# Altium schematic symbol library LPC1788.SCHLIB: 29 symbols
Pins are listed as number, name and electrical type; pins without a type are passive.

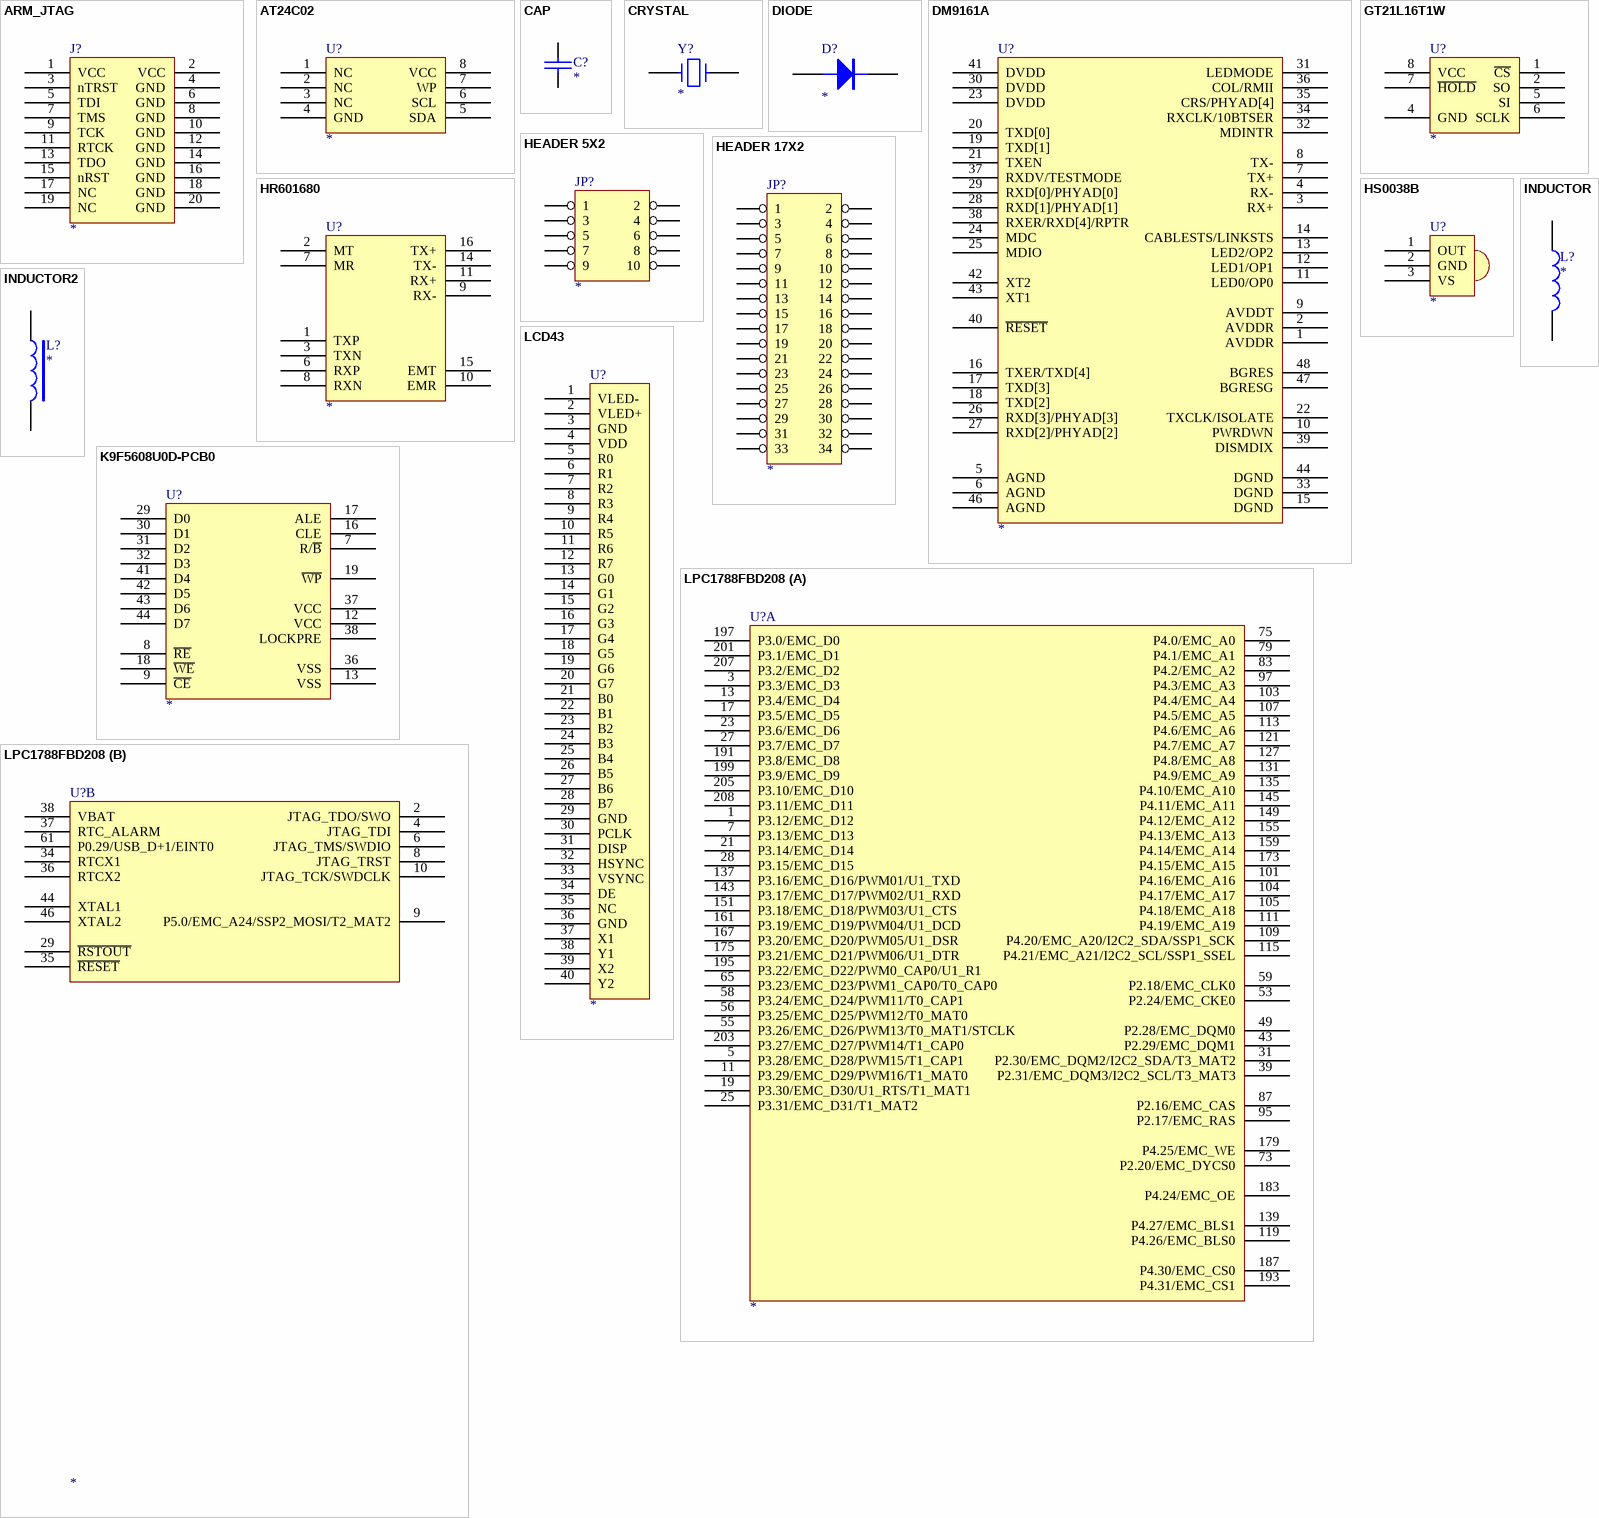
[diagram p0: symbols ARM_JTAG to LPC1788FBD208]

## ARM_JTAG
designator J?
footprint IDC20
pins: 1 VCC, 2 VCC, 3 nTRST, 4 GND, 5 TDI, 6 GND, 7 TMS, 8 GND, 9 TCK, 10 GND, 11 RTCK, 12 GND, 13 TDO, 14 GND, 15 nRST, 16 GND, 17 NC, 18 GND, 19 NC, 20 GND

## AT24C02
designator U?
footprint SOP8
pins: 1 NC, 2 NC, 3 NC, 4 GND, 5 SDA, 6 SCL, 7 WP, 8 VCC

## CAP
designator C?
footprint C0603
footprint C0805
footprint C1206
pins: 1, 2

## CRYSTAL
designator Y?
footprint CY5032
footprint MC-306
pins: 1, 2

## DIODE
designator D?
footprint SOD323
pins: 1 A, 2 K

## DM9161A
designator U?
footprint PQFP48
pins: 1 AVDDR, 2 AVDDR, 3 RX+, 4 RX-, 5 AGND, 6 AGND, 7 TX+, 8 TX-, 9 AVDDT, 10 PWRDWN, 11 LED0/OP0, 12 LED1/OP1, 13 LED2/OP2, 14 CABLESTS/LINKSTS, 15 DGND, 16 TXER/TXD[4], 17 TXD[3], 18 TXD[2], 19 TXD[1], 20 TXD[0], 21 TXEN, 22 TXCLK/ISOLATE, 23 DVDD, 24 MDC, 25 MDIO, 26 RXD[3]/PHYAD[3], 27 RXD[2]/PHYAD[2], 28 RXD[1]/PHYAD[1], 29 RXD[0]/PHYAD[0], 30 DVDD, 31 LEDMODE, 32 MDINTR, 33 DGND, 34 RXCLK/10BTSER, 35 CRS/PHYAD[4], 36 COL/RMII, 37 RXDV/TESTMODE, 38 RXER/RXD[4]/RPTR, 39 DISMDIX, 40 ~{RESET}, 41 DVDD, 42 XT2, 43 XT1, 44 DGND, 45 NC hidden to NC, 46 AGND, 47 BGRESG, 48 BGRES

## GT21L16T1W
designator U?
footprint SOP8
pins: 1 ~{CS}, 2 SO, 3 NC hidden to NC, 4 GND, 5 SI, 6 SCLK, 7 ~{HOLD}, 8 VCC

## HEADER 5X2
designator JP?
footprint IDC10
pins: 1, 2, 3, 4, 5, 6, 7, 8, 9, 10

## HEADER 17X2
designator JP?
footprint IDC34
pins: 1, 2, 3, 4, 5, 6, 7, 8, 9, 10, 11, 12, 13, 14, 15, 16, 17, 18, 19, 20, 21, 22, 23, 24, 25, 26, 27, 28, 29, 30, 31, 32, 33, 34

## HR601680
designator U?
footprint HR601680
pins: 1 TXP, 2 MT, 3 TXN, 4 NC hidden to NC, 5 NC hidden to NC, 6 RXP, 7 MR, 8 RXN, 9 RX-, 10 EMR, 11 RX+, 12 NC hidden to NC, 13 NC hidden to NC, 14 TX-, 15 EMT, 16 TX+

## HS0038B
designator U?
footprint HS0038B
pins: 1 OUT, 2 GND, 3 VS

## INDUCTOR
designator L?
footprint L4X4
footprint BEADL
pins: 1, 2

## INDUCTOR2
designator L?
footprint BEADL
footprint L4X4
pins: 1, 2

## K9F5608U0D-PCB0
designator U?
footprint TSOP1-48
footprint TSOP48
pins: 1 NC hidden to NC, 2 NC hidden to NC, 3 NC hidden to NC, 4 NC hidden to NC, 5 NC hidden to NC, 6 NC hidden to NC, 7 R/~{B}, 8 ~{RE}, 9 ~{CE}, 10 NC hidden to NC, 11 NC hidden to NC, 12 VCC, 13 VSS, 14 NC hidden to NC, 15 NC hidden to NC, 16 CLE, 17 ALE, 18 ~{WE}, 19 ~{WP}, 20 NC hidden to NC, 21 NC hidden to NC, 22 NC hidden to NC, 23 NC hidden to NC, 24 NC hidden to NC, 25 NC hidden to NC, 26 NC hidden to NC, 27 NC hidden to NC, 28 NC hidden to NC, 29 D0, 30 D1, 31 D2, 32 D3, 33 NC hidden to NC, 34 NC hidden to NC, 35 NC hidden to NC, 36 VSS, 37 VCC, 38 LOCKPRE, 39 NC hidden to NC, 40 NC hidden to NC, 41 D4, 42 D5, 43 D6, 44 D7, 45 NC hidden to NC, 46 NC hidden to NC, 47 NC hidden to NC, 48 NC hidden to NC

## LCD43
designator U?
footprint SMTSOFT40
pins: 1 VLED-, 2 VLED+, 3 GND, 4 VDD, 5 R0, 6 R1, 7 R2, 8 R3, 9 R4, 10 R5, 11 R6, 12 R7, 13 G0, 14 G1, 15 G2, 16 G3, 17 G4, 18 G5, 19 G6, 20 G7, 21 B0, 22 B1, 23 B2, 24 B3, 25 B4, 26 B5, 27 B6, 28 B7, 29 GND, 30 PCLK, 31 DISP, 32 HSYNC, 33 VSYNC, 34 DE, 35 NC, 36 GND, 37 X1, 38 Y1, 39 X2, 40 Y2

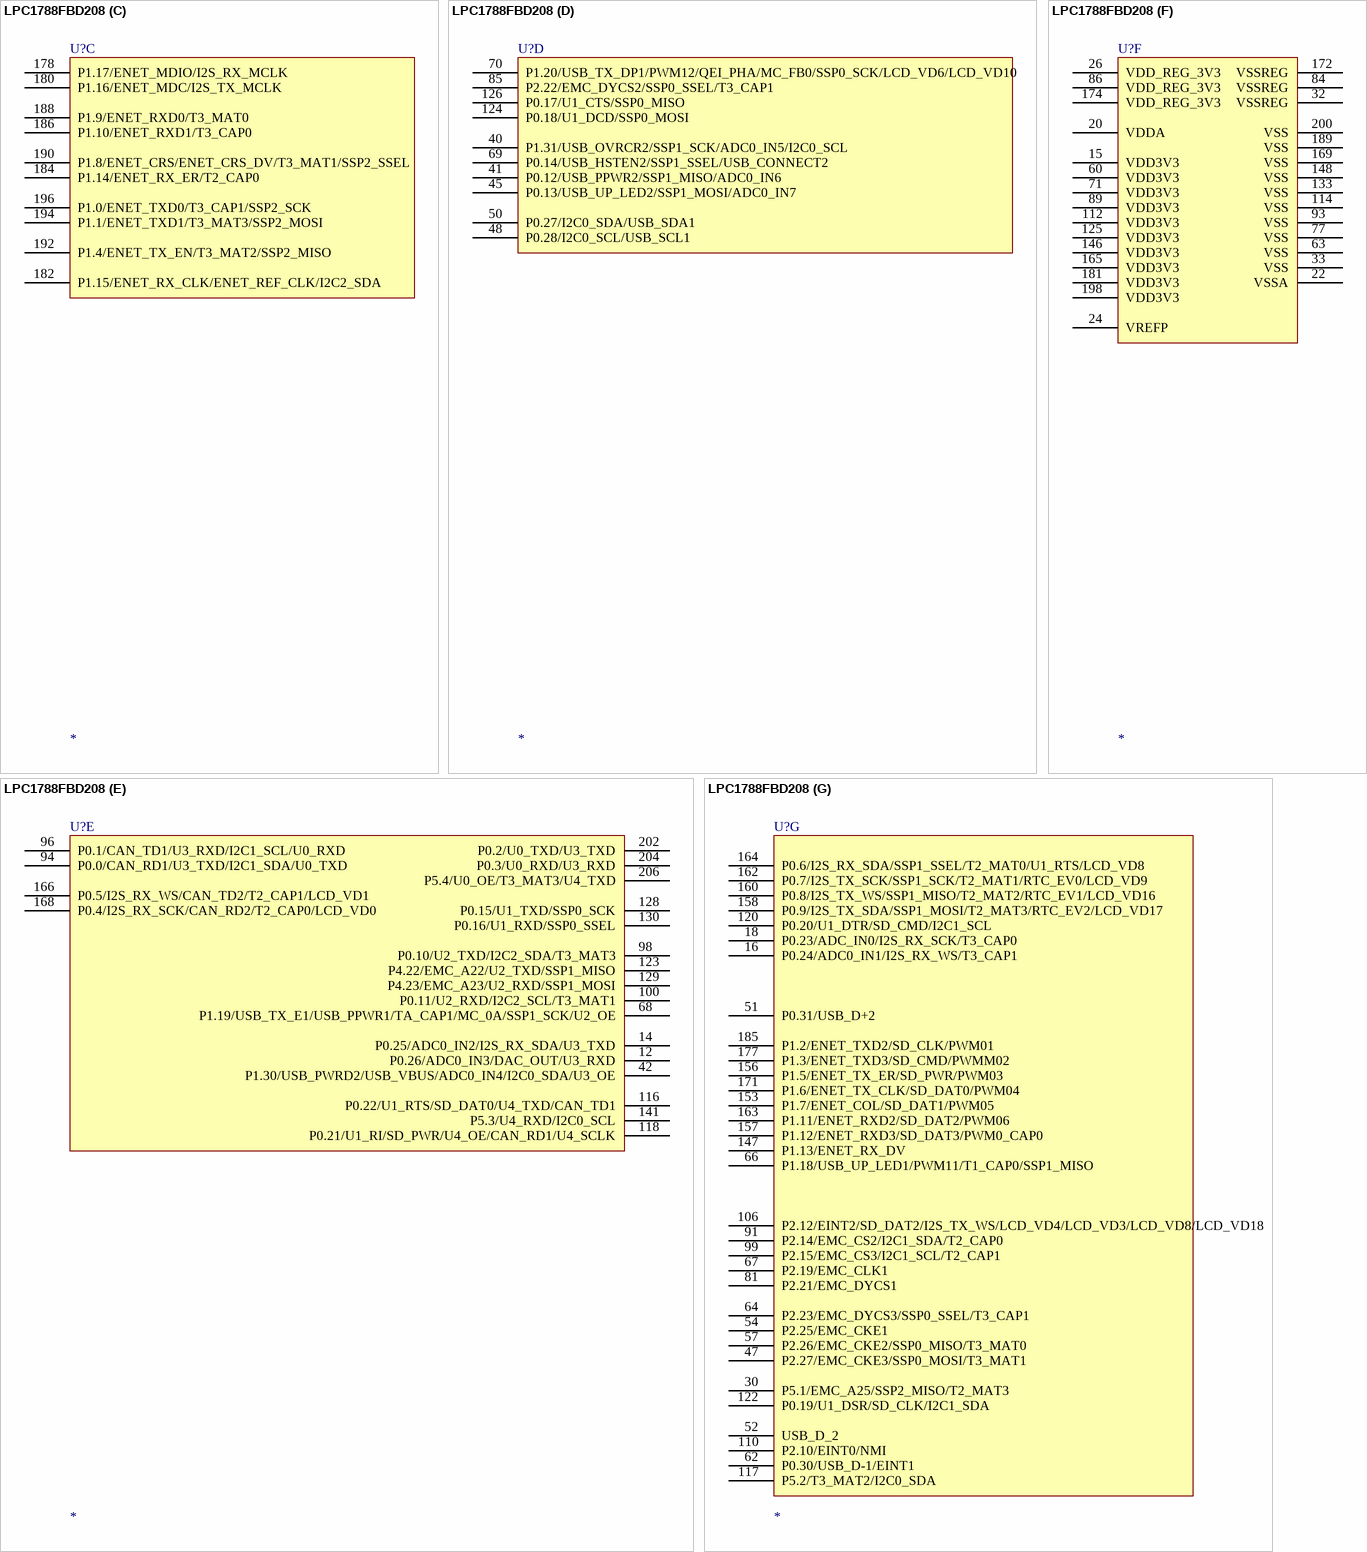
[diagram p1: symbol LPC1788FBD208]

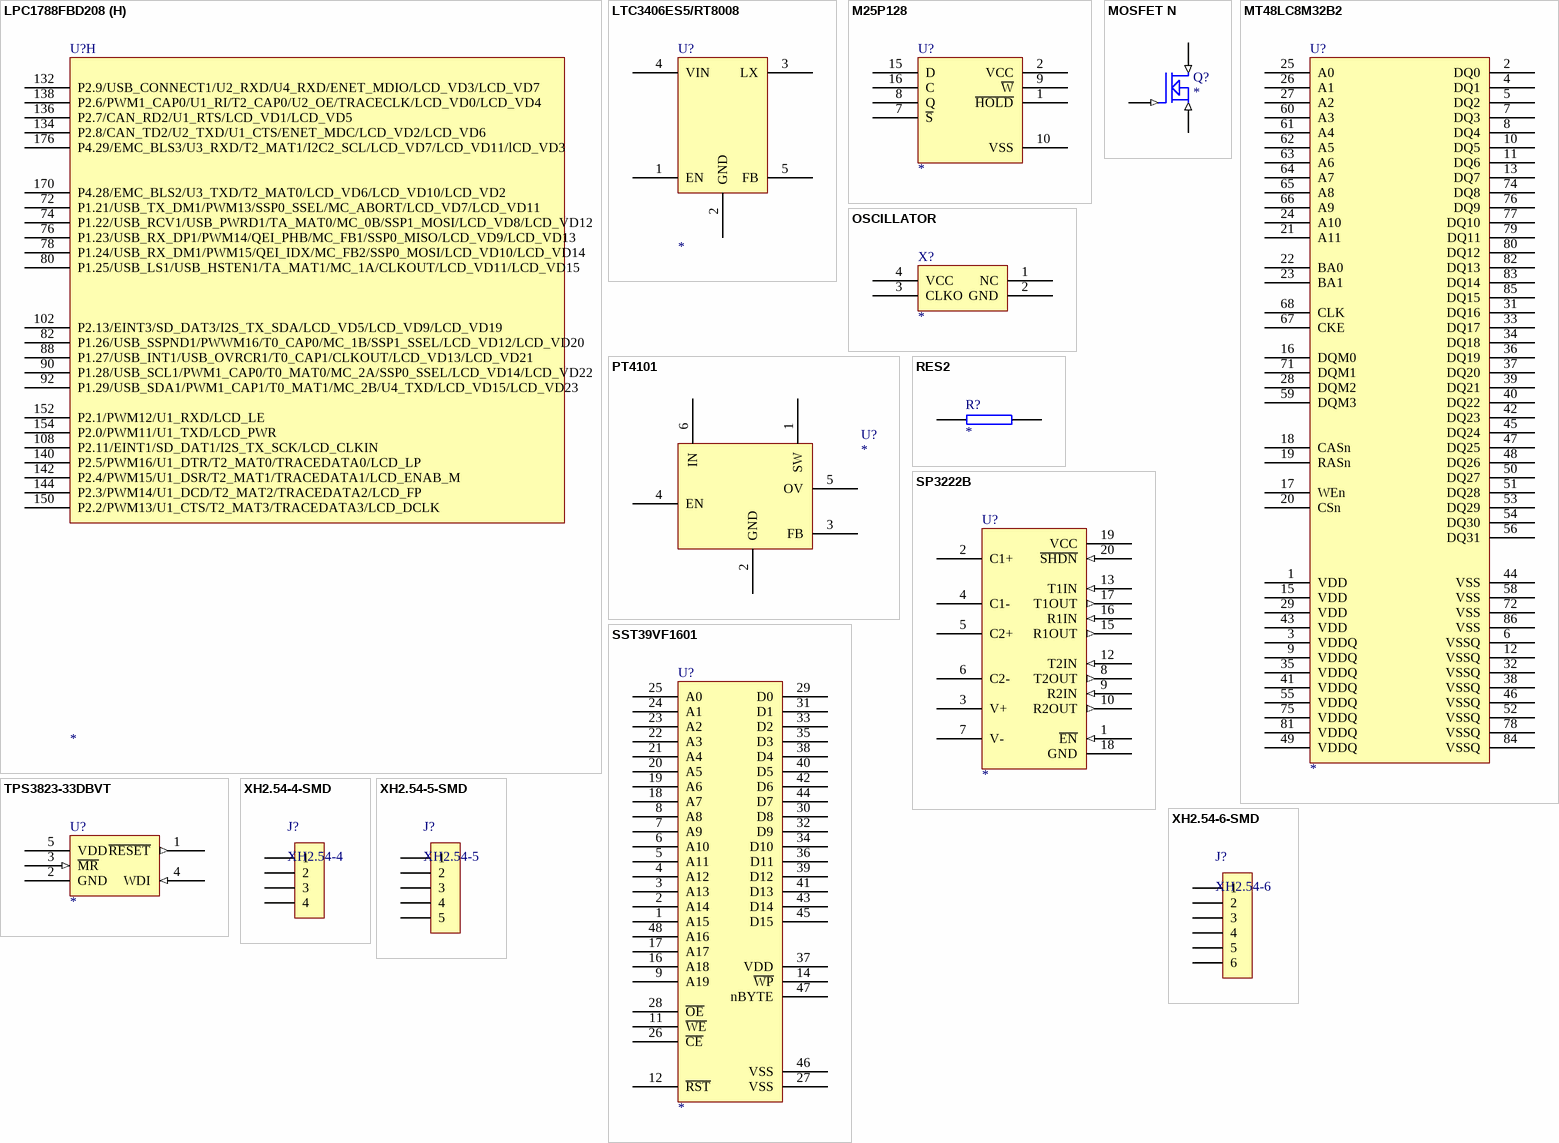
[diagram p2: symbols LPC1788FBD208 to XH2.54-6-SMD]

## LPC1788FBD208
designator U?
footprint QFP208
part A pins: 1 P3.12/EMC_D12, 3 P3.3/EMC_D3, 5 P3.28/EMC_D28/PWM15/T1_CAP1, 7 P3.13/EMC_D13, 11 P3.29/EMC_D29/PWM16/T1_MAT0, 13 P3.4/EMC_D4, 17 P3.5/EMC_D5, 19 P3.30/EMC_D30/U1_RTS/T1_MAT1, 21 P3.14/EMC_D14, 23 P3.6/EMC_D6, 25 P3.31/EMC_D31/T1_MAT2, 27 P3.7/EMC_D7, 28 P3.15/EMC_D15, 31 P2.30/EMC_DQM2/I2C2_SDA/T3_MAT2, 39 P2.31/EMC_DQM3/I2C2_SCL/T3_MAT3, 43 P2.29/EMC_DQM1, 49 P2.28/EMC_DQM0, 53 P2.24/EMC_CKE0, 55 P3.26/EMC_D26/PWM13/T0_MAT1/STCLK, 56 P3.25/EMC_D25/PWM12/T0_MAT0, 58 P3.24/EMC_D24/PWM11/T0_CAP1, 59 P2.18/EMC_CLK0, 65 P3.23/EMC_D23/PWM1_CAP0/T0_CAP0, 73 P2.20/EMC_DYCS0, 75 P4.0/EMC_A0, 79 P4.1/EMC_A1, 83 P4.2/EMC_A2, 87 P2.16/EMC_CAS, 95 P2.17/EMC_RAS, 97 P4.3/EMC_A3, 101 P4.16/EMC_A16, 103 P4.4/EMC_A4, 104 P4.17/EMC_A17, 105 P4.18/EMC_A18, 107 P4.5/EMC_A5, 109 P4.20/EMC_A20/I2C2_SDA/SSP1_SCK, 111 P4.19/EMC_A19, 113 P4.6/EMC_A6, 115 P4.21/EMC_A21/I2C2_SCL/SSP1_SSEL, 119 P4.26/EMC_BLS0, 121 P4.7/EMC_A7, 127 P4.8/EMC_A8, 131 P4.9/EMC_A9, 135 P4.10/EMC_A10, 137 P3.16/EMC_D16/PWM01/U1_TXD, 139 P4.27/EMC_BLS1, 143 P3.17/EMC_D17/PWM02/U1_RXD, 145 P4.11/EMC_A11, 149 P4.12/EMC_A12, 151 P3.18/EMC_D18/PWM03/U1_CTS, 155 P4.13/EMC_A13, 159 P4.14/EMC_A14, 161 P3.19/EMC_D19/PWM04/U1_DCD, 167 P3.20/EMC_D20/PWM05/U1_DSR, 173 P4.15/EMC_A15, 175 P3.21/EMC_D21/PWM06/U1_DTR, 179 P4.25/EMC_WE, 183 P4.24/EMC_OE, 187 P4.30/EMC_CS0, 191 P3.8/EMC_D8, 193 P4.31/EMC_CS1, 195 P3.22/EMC_D22/PWM0_CAP0/U1_R1, 197 P3.0/EMC_D0, 199 P3.9/EMC_D9, 201 P3.1/EMC_D1, 203 P3.27/EMC_D27/PWM14/T1_CAP0, 205 P3.10/EMC_D10, 207 P3.2/EMC_D2, 208 P3.11/EMC_D11
part B pins: 2 JTAG_TDO/SWO, 4 JTAG_TDI, 6 JTAG_TMS/SWDIO, 8 JTAG_TRST, 9 P5.0/EMC_A24/SSP2_MOSI/T2_MAT2, 10 JTAG_TCK/SWDCLK, 29 ~{RSTOUT}, 34 RTCX1, 35 ~{RESET}, 36 RTCX2, 37 RTC_ALARM, 38 VBAT, 44 XTAL1, 46 XTAL2, 61 P0.29/USB_D+1/EINT0
part C pins: 178 P1.17/ENET_MDIO/I2S_RX_MCLK, 180 P1.16/ENET_MDC/I2S_TX_MCLK, 182 P1.15/ENET_RX_CLK/ENET_REF_CLK/I2C2_SDA, 184 P1.14/ENET_RX_ER/T2_CAP0, 186 P1.10/ENET_RXD1/T3_CAP0, 188 P1.9/ENET_RXD0/T3_MAT0, 190 P1.8/ENET_CRS/ENET_CRS_DV/T3_MAT1/SSP2_SSEL, 192 P1.4/ENET_TX_EN/T3_MAT2/SSP2_MISO, 194 P1.1/ENET_TXD1/T3_MAT3/SSP2_MOSI, 196 P1.0/ENET_TXD0/T3_CAP1/SSP2_SCK
part D pins: 40 P1.31/USB_OVRCR2/SSP1_SCK/ADC0_IN5/I2C0_SCL, 41 P0.12/USB_PPWR2/SSP1_MISO/ADC0_IN6, 45 P0.13/USB_UP_LED2/SSP1_MOSI/ADC0_IN7, 48 P0.28/I2C0_SCL/USB_SCL1, 50 P0.27/I2C0_SDA/USB_SDA1, 69 P0.14/USB_HSTEN2/SSP1_SSEL/USB_CONNECT2, 70 P1.20/USB_TX_DP1/PWM12/QEI_PHA/MC_FB0/SSP0_SCK/LCD_VD6/LCD_VD10, 85 P2.22/EMC_DYCS2/SSP0_SSEL/T3_CAP1, 124 P0.18/U1_DCD/SSP0_MOSI, 126 P0.17/U1_CTS/SSP0_MISO
part E pins: 12 P0.26/ADC0_IN3/DAC_OUT/U3_RXD, 14 P0.25/ADC0_IN2/I2S_RX_SDA/U3_TXD, 42 P1.30/USB_PWRD2/USB_VBUS/ADC0_IN4/I2C0_SDA/U3_OE, 68 P1.19/USB_TX_E1/USB_PPWR1/TA_CAP1/MC_0A/SSP1_SCK/U2_OE, 94 P0.0/CAN_RD1/U3_TXD/I2C1_SDA/U0_TXD, 96 P0.1/CAN_TD1/U3_RXD/I2C1_SCL/U0_RXD, 98 P0.10/U2_TXD/I2C2_SDA/T3_MAT3, 100 P0.11/U2_RXD/I2C2_SCL/T3_MAT1, 116 P0.22/U1_RTS/SD_DAT0/U4_TXD/CAN_TD1, 118 P0.21/U1_RI/SD_PWR/U4_OE/CAN_RD1/U4_SCLK, 123 P4.22/EMC_A22/U2_TXD/SSP1_MISO, 128 P0.15/U1_TXD/SSP0_SCK, 129 P4.23/EMC_A23/U2_RXD/SSP1_MOSI, 130 P0.16/U1_RXD/SSP0_SSEL, 141 P5.3/U4_RXD/I2C0_SCL, 166 P0.5/I2S_RX_WS/CAN_TD2/T2_CAP1/LCD_VD1, 168 P0.4/I2S_RX_SCK/CAN_RD2/T2_CAP0/LCD_VD0, 202 P0.2/U0_TXD/U3_TXD, 204 P0.3/U0_RXD/U3_RXD, 206 P5.4/U0_OE/T3_MAT3/U4_TXD
part F pins: 15 VDD3V3, 20 VDDA, 22 VSSA, 24 VREFP, 26 VDD_REG_3V3, 32 VSSREG, 33 VSS, 60 VDD3V3, 63 VSS, 71 VDD3V3, 77 VSS, 84 VSSREG, 86 VDD_REG_3V3, 89 VDD3V3, 93 VSS, 112 VDD3V3, 114 VSS, 125 VDD3V3, 133 VSS, 146 VDD3V3, 148 VSS, 165 VDD3V3, 169 VSS, 172 VSSREG, 174 VDD_REG_3V3, 181 VDD3V3, 189 VSS, 198 VDD3V3, 200 VSS
part G pins: 16 P0.24/ADC0_IN1/I2S_RX_WS/T3_CAP1, 18 P0.23/ADC_IN0/I2S_RX_SCK/T3_CAP0, 30 P5.1/EMC_A25/SSP2_MISO/T2_MAT3, 47 P2.27/EMC_CKE3/SSP0_MOSI/T3_MAT1, 51 P0.31/USB_D+2, 52 USB_D_2, 54 P2.25/EMC_CKE1, 57 P2.26/EMC_CKE2/SSP0_MISO/T3_MAT0, 62 P0.30/USB_D-1/EINT1, 64 P2.23/EMC_DYCS3/SSP0_SSEL/T3_CAP1, 66 P1.18/USB_UP_LED1/PWM11/T1_CAP0/SSP1_MISO, 67 P2.19/EMC_CLK1, 81 P2.21/EMC_DYCS1, 91 P2.14/EMC_CS2/I2C1_SDA/T2_CAP0, 99 P2.15/EMC_CS3/I2C1_SCL/T2_CAP1, 106 P2.12/EINT2/SD_DAT2/I2S_TX_WS/LCD_VD4/LCD_VD3/LCD_VD8/LCD_VD18, 110 P2.10/EINT0/NMI, 117 P5.2/T3_MAT2/I2C0_SDA, 120 P0.20/U1_DTR/SD_CMD/I2C1_SCL, 122 P0.19/U1_DSR/SD_CLK/I2C1_SDA, 147 P1.13/ENET_RX_DV, 153 P1.7/ENET_COL/SD_DAT1/PWM05, 156 P1.5/ENET_TX_ER/SD_PWR/PWM03, 157 P1.12/ENET_RXD3/SD_DAT3/PWM0_CAP0, 158 P0.9/I2S_TX_SDA/SSP1_MOSI/T2_MAT3/RTC_EV2/LCD_VD17, 160 P0.8/I2S_TX_WS/SSP1_MISO/T2_MAT2/RTC_EV1/LCD_VD16, 162 P0.7/I2S_TX_SCK/SSP1_SCK/T2_MAT1/RTC_EV0/LCD_VD9, 163 P1.11/ENET_RXD2/SD_DAT2/PWM06, 164 P0.6/I2S_RX_SDA/SSP1_SSEL/T2_MAT0/U1_RTS/LCD_VD8, 171 P1.6/ENET_TX_CLK/SD_DAT0/PWM04, 177 P1.3/ENET_TXD3/SD_CMD/PWMM02, 185 P1.2/ENET_TXD2/SD_CLK/PWM01
part H pins: 72 P1.21/USB_TX_DM1/PWM13/SSP0_SSEL/MC_ABORT/LCD_VD7/LCD_VD11, 74 P1.22/USB_RCV1/USB_PWRD1/TA_MAT0/MC_0B/SSP1_MOSI/LCD_VD8/LCD_VD12, 76 P1.23/USB_RX_DP1/PWM14/QEI_PHB/MC_FB1/SSP0_MISO/LCD_VD9/LCD_VD13, 78 P1.24/USB_RX_DM1/PWM15/QEI_IDX/MC_FB2/SSP0_MOSI/LCD_VD10/LCD_VD14, 80 P1.25/USB_LS1/USB_HSTEN1/TA_MAT1/MC_1A/CLKOUT/LCD_VD11/LCD_VD15, 82 P1.26/USB_SSPND1/PWWM16/T0_CAP0/MC_1B/SSP1_SSEL/LCD_VD12/LCD_VD20, 88 P1.27/USB_INT1/USB_OVRCR1/T0_CAP1/CLKOUT/LCD_VD13/LCD_VD21, 90 P1.28/USB_SCL1/PWM1_CAP0/T0_MAT0/MC_2A/SSP0_SSEL/LCD_VD14/LCD_VD22, 92 P1.29/USB_SDA1/PWM1_CAP1/T0_MAT1/MC_2B/U4_TXD/LCD_VD15/LCD_VD23, 102 P2.13/EINT3/SD_DAT3/I2S_TX_SDA/LCD_VD5/LCD_VD9/LCD_VD19, 108 P2.11/EINT1/SD_DAT1/I2S_TX_SCK/LCD_CLKIN, 132 P2.9/USB_CONNECT1/U2_RXD/U4_RXD/ENET_MDIO/LCD_VD3/LCD_VD7, 134 P2.8/CAN_TD2/U2_TXD/U1_CTS/ENET_MDC/LCD_VD2/LCD_VD6, 136 P2.7/CAN_RD2/U1_RTS/LCD_VD1/LCD_VD5, 138 P2.6/PWM1_CAP0/U1_RI/T2_CAP0/U2_OE/TRACECLK/LCD_VD0/LCD_VD4, 140 P2.5/PWM16/U1_DTR/T2_MAT0/TRACEDATA0/LCD_LP, 142 P2.4/PWM15/U1_DSR/T2_MAT1/TRACEDATA1/LCD_ENAB_M, 144 P2.3/PWM14/U1_DCD/T2_MAT2/TRACEDATA2/LCD_FP, 150 P2.2/PWM13/U1_CTS/T2_MAT3/TRACEDATA3/LCD_DCLK, 152 P2.1/PWM12/U1_RXD/LCD_LE, 154 P2.0/PWM11/U1_TXD/LCD_PWR, 170 P4.28/EMC_BLS2/U3_TXD/T2_MAT0/LCD_VD6/LCD_VD10/LCD_VD2, 176 P4.29/EMC_BLS3/U3_RXD/T2_MAT1/I2C2_SCL/LCD_VD7/LCD_VD11/lCD_VD3

## LTC3406ES5/RT8008
designator U?
footprint SOT23-5
pins: 1 EN, 2 GND, 3 LX, 4 VIN, 5 FB

## M25P128
designator U?
footprint WSOP16
pins: 1 ~{HOLD}, 2 VCC, 3 NC hidden to NC, 4 NC hidden to NC, 5 NC hidden to NC, 6 NC hidden to NC, 7 ~{S}, 8 Q, 9 ~{W}, 10 VSS, 11 NC hidden to NC, 12 NC hidden to NC, 13 NC hidden to NC, 14 NC hidden to NC, 15 D, 16 C

## MOSFET N
designator Q?
footprint SOT23_9013
pins: 1 G (in), 2 D (in), 3 S (in)

## MT48LC8M32B2
designator U?
footprint TSOP86
pins: 1 VDD, 2 DQ0, 3 VDDQ, 4 DQ1, 5 DQ2, 6 VSSQ, 7 DQ3, 8 DQ4, 9 VDDQ, 10 DQ5, 11 DQ6, 12 VSSQ, 13 DQ7, 14 NC hidden to NC, 15 VDD, 16 DQM0, 17 WEn, 18 CASn, 19 RASn, 20 CSn, 21 A11, 22 BA0, 23 BA1, 24 A10, 25 A0, 26 A1, 27 A2, 28 DQM2, 29 VDD, 30 NC hidden to NC, 31 DQ16, 32 VSSQ, 33 DQ17, 34 DQ18, 35 VDDQ, 36 DQ19, 37 DQ20, 38 VSSQ, 39 DQ21, 40 DQ22, 41 VDDQ, 42 DQ23, 43 VDD, 44 VSS, 45 DQ24, 46 VSSQ, 47 DQ25, 48 DQ26, 49 VDDQ, 50 DQ27, 51 DQ28, 52 VSSQ, 53 DQ29, 54 DQ30, 55 VDDQ, 56 DQ31, 57 NC hidden to NC, 58 VSS, 59 DQM3, 60 A3, 61 A4, 62 A5, 63 A6, 64 A7, 65 A8, 66 A9, 67 CKE, 68 CLK, 69 NC hidden to NC, 70 NC hidden to NC, 71 DQM1, 72 VSS, 73 NC hidden to NC, 74 DQ8, 75 VDDQ, 76 DQ9, 77 DQ10, 78 VSSQ, 79 DQ11, 80 DQ12, 81 VDDQ, 82 DQ13, 83 DQ14, 84 VSSQ, 85 DQ15, 86 VSS

## OSCILLATOR
designator X?
footprint CRYSTAL5X8
pins: 1 NC, 2 GND, 3 CLKO, 4 VCC

## PT4101
designator U?
footprint SOT23-6
pins: 1 SW, 2 GND, 3 FB, 4 EN, 5 OV, 6 IN

## RES2
designator R?
footprint R0603
pins: 1, 2

## SP3222B
designator U?
footprint TSSOP20
pins: 1 ~{EN} (in), 2 C1+, 3 V+, 4 C1-, 5 C2+, 6 C2-, 7 V-, 8 T2OUT (out), 9 R2IN (in), 10 R2OUT (out), 11 NC hidden to NC, 12 T2IN (in), 13 T1IN (in), 14 NC hidden to NC, 15 R1OUT (out), 16 R1IN (in), 17 T1OUT (out), 18 GND (power), 19 VCC (power), 20 ~{SHDN} (in)

## SST39VF1601
designator U?
footprint TSOP48
pins: 1 A15, 2 A14, 3 A13, 4 A12, 5 A11, 6 A10, 7 A9, 8 A8, 9 A19, 10 NC hidden to NC, 11 ~{WE}, 12 ~{RST}, 13 NC hidden to NC, 14 ~{WP}, 15 NC hidden to NC, 16 A18, 17 A17, 18 A7, 19 A6, 20 A5, 21 A4, 22 A3, 23 A2, 24 A1, 25 A0, 26 ~{CE}, 27 VSS, 28 ~{OE}, 29 D0, 30 D8, 31 D1, 32 D9, 33 D2, 34 D10, 35 D3, 36 D11, 37 VDD, 38 D4, 39 D12, 40 D5, 41 D13, 42 D6, 43 D14, 44 D7, 45 D15, 46 VSS, 47 nBYTE, 48 A16

## TPS3823-33DBVT
designator U?
footprint SOT23-5
pins: 1 ~{RESET} (out), 2 GND (power), 3 ~{MR} (in), 4 WDI (in), 5 VDD (power)

## XH2.54-4-SMD
designator J?, comment XH2.54-4
footprint A2501WF-04A
pins: 1, 2, 3, 4

## XH2.54-5-SMD
designator J?, comment XH2.54-5
footprint A2501WF-05A
pins: 1, 2, 3, 4, 5

## XH2.54-6-SMD
designator J?, comment XH2.54-6
footprint A2501WF-06A
pins: 1, 2, 3, 4, 5, 6